# EAGLE library part L4960 (library l4960)
2.5A POWER SWITCHING REGULATOR
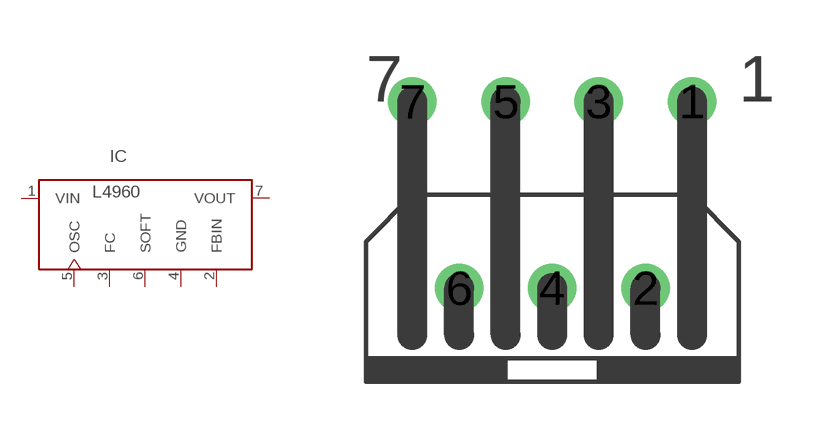
[diagram p0: symbol with the pads of HEPTAWATT; footprint HEPTAWATT]

Designator prefix IC

## L4960  [HEPTAWATT]
1  VIN  in
2  FBIN  in
3  FC  sup
4  GND  sup
5  OSC  in
6  SOFT  in
7  VOUT  out

## Footprint HEPTAWATT (pad centres in mm)
HEPTAWATT 7
drill 0.813 round: 1 3.81,5.08; 2 2.54,0; 3 1.27,5.08; 4 0,0; 5 -1.27,5.08; 6 -2.54,0; 7 -3.81,5.08